# EAGLE library part EPF10K100A-BGA600 (library altera_pga84)
EPF10K100 FLEX 10K family
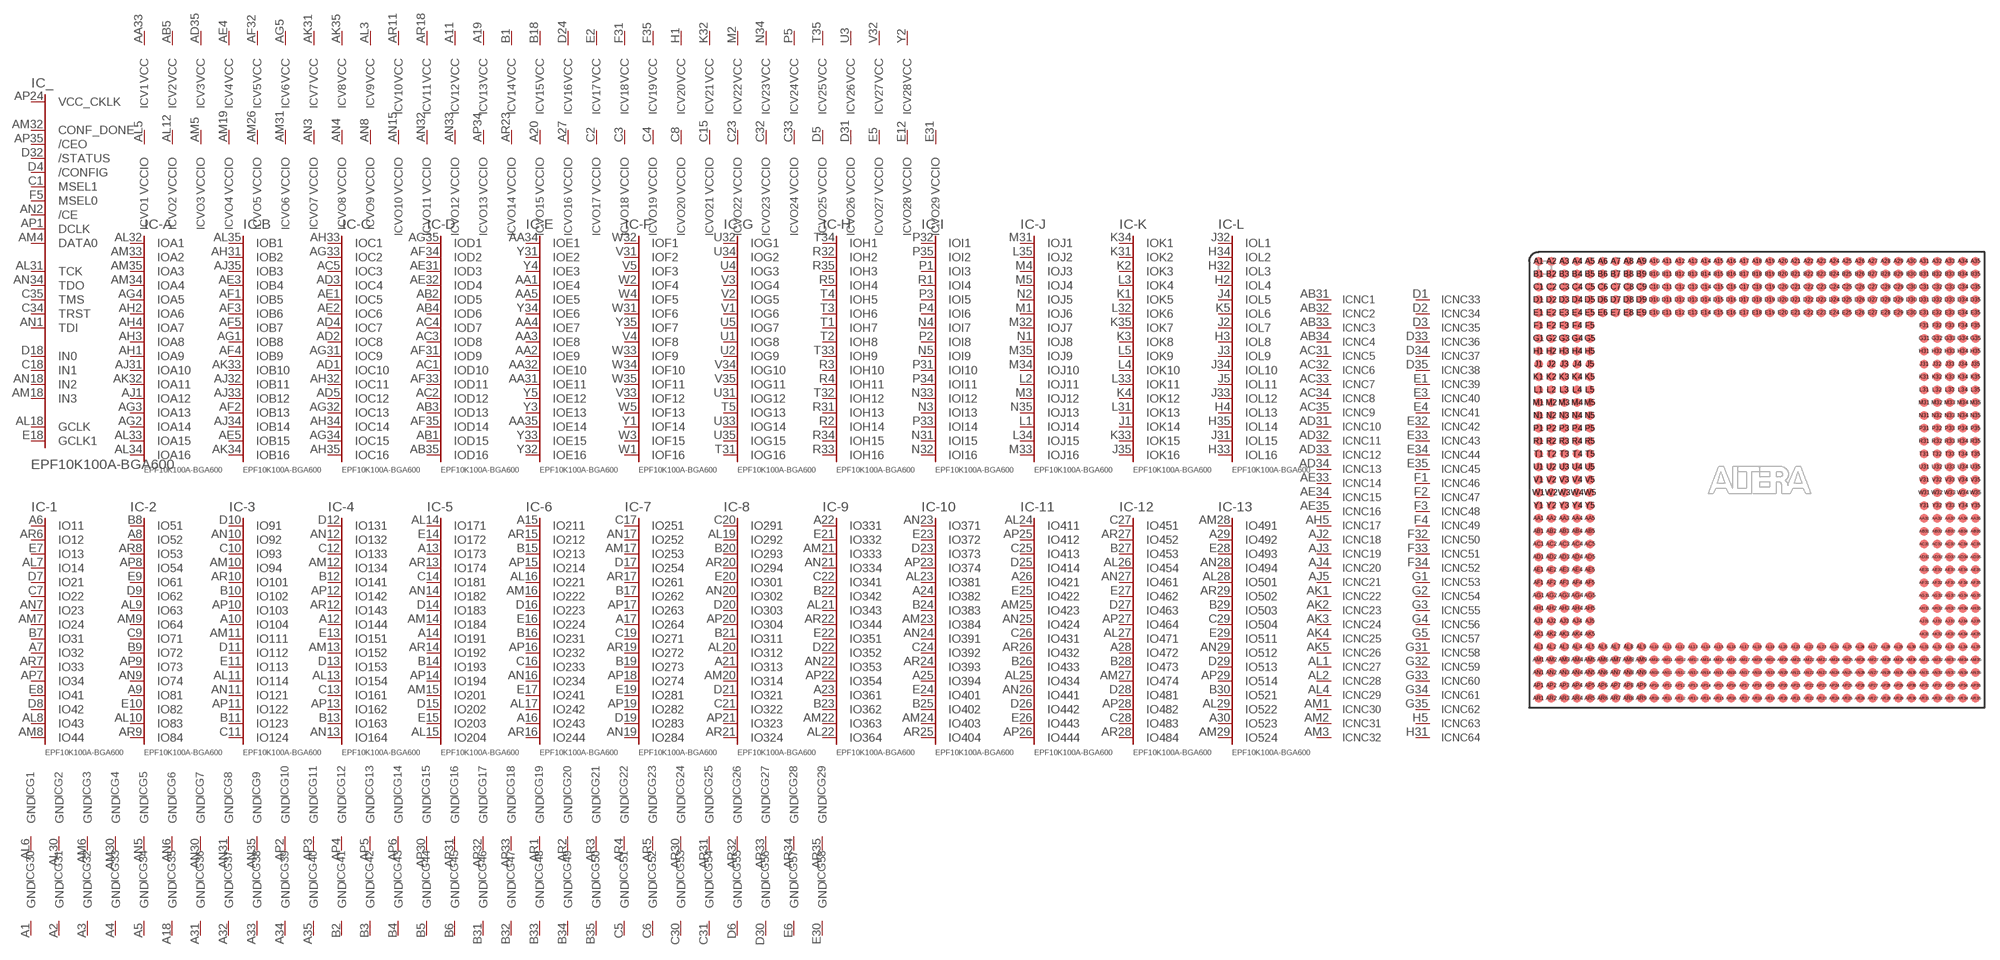
[diagram p39: symbol with the pads of BGA600; footprint BGA600]

Designator prefix IC; gates _=100B600C -A=A16 -B=B16 -C=C16 -D=D16 -E=E16 -F=F16 -G=G16 -H=H16 -I=I16 -J=J16 -K=K16 -L=L16 -1=IO44 -2=IO84 -3=IO124 -4=IO164 -5=IO204 -6=IO244 -7=IO284 -8=IO324 -9=IO364 -10=IO404 -11=IO444 -12=IO484 -13=IO524 G1=GND G2=GND G3=GND G4=GND G5=GND G6=GND G7=GND G8=GND G9=GND G10=GND G11=GND G12=GND G13=GND G14=GND G15=GND G16=GND G17=GND G18=GND G19=GND G20=GND G21=GND G22=GND G23=GND G24=GND G25=GND G26=GND G27=GND G28=GND G29=GND G30=GND G31=GND G32=GND G33=GND G34=GND G35=GND G36=GND G37=GND G38=GND G39=GND G40=GND G41=GND G42=GND G43=GND G44=GND G45=GND G46=GND G47=GND G48=GND G49=GND G50=GND G51=GND G52=GND G53=GND G54=GND G55=GND G56=GND G57=GND G58=GND NC1=NC NC2=NC NC3=NC NC4=NC NC5=NC NC6=NC NC7=NC NC8=NC NC9=NC NC10=NC NC11=NC NC12=NC NC13=NC NC14=NC NC15=NC NC16=NC NC17=NC NC18=NC NC19=NC NC20=NC NC21=NC NC22=NC NC23=NC NC24=NC NC25=NC NC26=NC NC27=NC NC28=NC NC29=NC NC30=NC NC31=NC NC32=NC NC33=NC NC34=NC NC35=NC NC36=NC NC37=NC NC38=NC NC39=NC NC40=NC NC41=NC NC42=NC NC43=NC NC44=NC NC45=NC NC46=NC NC47=NC NC48=NC NC49=NC NC50=NC NC51=NC NC52=NC NC53=NC NC54=NC NC55=NC NC56=NC NC57=NC NC58=NC NC59=NC NC60=NC NC61=NC NC62=NC NC63=NC NC64=NC V1=VCCINT V2=VCCINT V3=VCCINT V4=VCCINT V5=VCCINT V6=VCCINT V7=VCCINT V8=VCCINT V9=VCCINT V10=VCCINT V11=VCCINT V12=VCCINT V13=VCCINT V14=VCCINT V15=VCCINT V16=VCCINT V17=VCCINT V18=VCCINT V19=VCCINT V20=VCCINT V21=VCCINT V22=VCCINT V23=VCCINT V24=VCCINT V25=VCCINT V26=VCCINT V27=VCCINT V28=VCCINT VO1=VCCIO VO2=VCCIO VO3=VCCIO VO4=VCCIO VO5=VCCIO VO6=VCCIO VO7=VCCIO VO8=VCCIO VO9=VCCIO VO10=VCCIO VO11=VCCIO VO12=VCCIO VO13=VCCIO VO14=VCCIO VO15=VCCIO VO16=VCCIO VO17=VCCIO VO18=VCCIO VO19=VCCIO VO20=VCCIO VO21=VCCIO VO22=VCCIO VO23=VCCIO VO24=VCCIO VO25=VCCIO VO26=VCCIO VO27=VCCIO VO28=VCCIO VO29=VCCIO

## EPF10K100A-BGA600 (MPN: EPF10K100ABC600-1; OC_FARNELL: unknown; OC_NEWARK: 51R8783)  [BGA600]
A1  G30:GND  pwr
A2  G31:GND  pwr
A3  G32:GND  pwr
A4  G33:GND  pwr
A5  G34:GND  pwr
A6  -1:IO11
A7  -1:IO32
A8  -2:IO52
A9  -2:IO81
A10  -3:IO104
A11  V12:VCC  pwr
A12  -4:IO144
A13  -5:IO173
A14  -5:IO191
A15  -6:IO211
A16  -6:IO243
A17  -7:IO264
A18  G35:GND  pwr
A19  V13:VCC  pwr
A20  VO15:VCCIO  pwr
A21  -8:IO313
A22  -9:IO331
A23  -9:IO361
A24  -10:IO382
A25  -10:IO394
A26  -11:IO421
A27  VO16:VCCIO  pwr
A28  -12:IO472
A29  -13:IO492
A30  -13:IO523
A31  G36:GND  pwr
A32  G37:GND  pwr
A33  G38:GND  pwr
A34  G39:GND  pwr
A35  G40:GND  pwr
AA1  -E:IOE4
AA2  -E:IOE9
AA3  -E:IOE8
AA4  -E:IOE7
AA5  -E:IOE5
AA31  -E:IOE11
AA32  -E:IOE10
AA33  V1:VCC  pwr
AA34  -E:IOE1
AA35  -E:IOE14
AB1  -D:IOD15
AB2  -D:IOD5
AB3  -D:IOD13
AB4  -D:IOD6
AB5  V2:VCC  pwr
AB31  NC1:NC  nc
AB32  NC2:NC  nc
AB33  NC3:NC  nc
AB34  NC4:NC  nc
AB35  -D:IOD16
AC1  -D:IOD10
AC2  -D:IOD12
AC3  -D:IOD8
AC4  -D:IOD7
AC5  -C:IOC3
AC31  NC5:NC  nc
AC32  NC6:NC  nc
AC33  NC7:NC  nc
AC34  NC8:NC  nc
AC35  NC9:NC  nc
AD1  -C:IOC10
AD2  -C:IOC8
AD3  -C:IOC4
AD4  -C:IOC7
AD5  -C:IOC12
AD31  NC10:NC  nc
AD32  NC11:NC  nc
AD33  NC12:NC  nc
AD34  NC13:NC  nc
AD35  V3:VCC  pwr
AE1  -C:IOC5
AE2  -C:IOC6
AE3  -B:IOB4
AE4  V4:VCC  pwr
AE5  -B:IOB15
AE31  -D:IOD3
AE32  -D:IOD4
AE33  NC14:NC  nc
AE34  NC15:NC  nc
AE35  NC16:NC  nc
AF1  -B:IOB5
AF2  -B:IOB13
AF3  -B:IOB6
AF4  -B:IOB9
AF5  -B:IOB7
AF31  -D:IOD9
AF32  V5:VCC  pwr
AF33  -D:IOD11
AF34  -D:IOD2
AF35  -D:IOD14
AG1  -B:IOB8
AG2  -A:IOA14
AG3  -A:IOA13
AG4  -A:IOA5
AG5  V6:VCC  pwr
AG31  -C:IOC9
AG32  -C:IOC13
AG33  -C:IOC2
AG34  -C:IOC15
AG35  -D:IOD1
AH1  -A:IOA9
AH2  -A:IOA6
AH3  -A:IOA8
AH4  -A:IOA7
AH5  NC17:NC  nc
AH31  -B:IOB2
AH32  -C:IOC11
AH33  -C:IOC1
AH34  -C:IOC14
AH35  -C:IOC16
AJ1  -A:IOA12
AJ2  NC18:NC  nc
AJ3  NC19:NC  nc
AJ4  NC20:NC  nc
AJ5  NC21:NC  nc
AJ31  -A:IOA10
AJ32  -B:IOB11
AJ33  -B:IOB12
AJ34  -B:IOB14
AJ35  -B:IOB3
AK1  NC22:NC  nc
AK2  NC23:NC  nc
AK3  NC24:NC  nc
AK4  NC25:NC  nc
AK5  NC26:NC  nc
AK31  V7:VCC  pwr
AK32  -A:IOA11
AK33  -B:IOB10
AK34  -B:IOB16
AK35  V8:VCC  pwr
AL1  NC27:NC  nc
AL2  NC28:NC  nc
AL3  V9:VCC  pwr
AL4  NC29:NC  nc
AL5  VO1:VCCIO  pwr
AL6  G1:GND  pwr
AL7  -1:IO14
AL8  -1:IO43
AL9  -2:IO63
AL10  -2:IO83
AL11  -3:IO114
AL12  VO2:VCCIO  pwr
AL13  -4:IO154
AL14  -5:IO171
AL15  -5:IO204
AL16  -6:IO221
AL17  -6:IO242
AL18  _:GCLK  in
AL19  -8:IO292
AL20  -8:IO312
AL21  -9:IO343
AL22  -9:IO364
AL23  -10:IO381
AL24  -11:IO411
AL25  -11:IO434
AL26  -12:IO454
AL27  -12:IO471
AL28  -13:IO501
AL29  -13:IO522
AL30  G2:GND  pwr
AL31  _:TCK
AL32  -A:IOA1
AL33  -A:IOA15
AL34  -A:IOA16
AL35  -B:IOB1
AM1  NC30:NC  nc
AM2  NC31:NC  nc
AM3  NC32:NC  nc
AM4  _:DATA0  in
AM5  VO3:VCCIO  pwr
AM6  G3:GND  pwr
AM7  -1:IO24
AM8  -1:IO44
AM9  -2:IO64
AM10  -3:IO94
AM11  -3:IO111
AM12  -4:IO134
AM13  -4:IO152
AM14  -5:IO184
AM15  -5:IO201
AM16  -6:IO222
AM17  -7:IO253
AM18  _:IN3  in
AM19  VO4:VCCIO  pwr
AM20  -8:IO314
AM21  -9:IO333
AM22  -9:IO363
AM23  -10:IO384
AM24  -10:IO403
AM25  -11:IO423
AM26  VO5:VCCIO  pwr
AM27  -12:IO474
AM28  -13:IO491
AM29  -13:IO524
AM30  G4:GND  pwr
AM31  VO6:VCCIO  pwr
AM32  _:CONF_DONE  in
AM33  -A:IOA2
AM34  -A:IOA4
AM35  -A:IOA3
AN1  _:TDI
AN2  _:/CE  in
AN3  VO7:VCCIO  pwr
AN4  VO8:VCCIO  pwr
AN5  G5:GND  pwr
AN6  G6:GND  pwr
AN7  -1:IO23
AN8  VO9:VCCIO  pwr
AN9  -2:IO74
AN10  -3:IO92
AN11  -3:IO121
AN12  -4:IO132
AN13  -4:IO164
AN14  -5:IO182
AN15  VO10:VCCIO  pwr
AN16  -6:IO234
AN17  -7:IO252
AN18  _:IN2  in
AN19  -7:IO284
AN20  -8:IO302
AN21  -9:IO334
AN22  -9:IO353
AN23  -10:IO371
AN24  -10:IO391
AN25  -11:IO424
AN26  -11:IO441
AN27  -12:IO461
AN28  -13:IO494
AN29  -13:IO512
AN30  G7:GND  pwr
AN31  G8:GND  pwr
AN32  VO11:VCCIO  pwr
AN33  VO12:VCCIO  pwr
AN34  _:TDO
AN35  G9:GND  pwr
AP1  _:DCLK  in
AP2  G10:GND  pwr
AP3  G11:GND  pwr
AP4  G12:GND  pwr
AP5  G13:GND  pwr
AP6  G14:GND  pwr
AP7  -1:IO34
AP8  -2:IO54
AP9  -2:IO73
AP10  -3:IO103
AP11  -3:IO122
AP12  -4:IO142
AP13  -4:IO162
AP14  -5:IO194
AP15  -6:IO214
AP16  -6:IO232
AP17  -7:IO263
AP18  -7:IO274
AP19  -7:IO282
AP20  -8:IO304
AP21  -8:IO323
AP22  -9:IO354
AP23  -10:IO374
AP24  _:VCC_CKLK  pas
AP25  -11:IO412
AP26  -11:IO444
AP27  -12:IO464
AP28  -12:IO482
AP29  -13:IO514
AP30  G15:GND  pwr
AP31  G16:GND  pwr
AP32  G17:GND  pwr
AP33  G18:GND  pwr
AP34  VO13:VCCIO  pwr
AP35  _:/CEO  in
AR1  G19:GND  pwr
AR2  G20:GND  pwr
AR3  G21:GND  pwr
AR4  G22:GND  pwr
AR5  G23:GND  pwr
AR6  -1:IO12
AR7  -1:IO33
AR8  -2:IO53
AR9  -2:IO84
AR10  -3:IO101
AR11  V10:VCC  pwr
AR12  -4:IO143
AR13  -5:IO174
AR14  -5:IO192
AR15  -6:IO212
AR16  -6:IO244
AR17  -7:IO261
AR18  V11:VCC  pwr
AR19  -7:IO272
AR20  -8:IO294
AR21  -8:IO324
AR22  -9:IO344
AR23  VO14:VCCIO  pwr
AR24  -10:IO393
AR25  -10:IO404
AR26  -11:IO432
AR27  -12:IO452
AR28  -12:IO484
AR29  -13:IO502
AR30  G24:GND  pwr
AR31  G25:GND  pwr
AR32  G26:GND  pwr
AR33  G27:GND  pwr
AR34  G28:GND  pwr
AR35  G29:GND  pwr
B1  V14:VCC  pwr
B2  G41:GND  pwr
B3  G42:GND  pwr
B4  G43:GND  pwr
B5  G44:GND  pwr
B6  G45:GND  pwr
B7  -1:IO31
B8  -2:IO51
B9  -2:IO72
B10  -3:IO102
B11  -3:IO123
B12  -4:IO141
B13  -4:IO163
B14  -5:IO193
B15  -6:IO213
B16  -6:IO231
B17  -7:IO262
B18  V15:VCC  pwr
B19  -7:IO273
B20  -8:IO293
B21  -8:IO311
B22  -9:IO342
B23  -9:IO362
B24  -10:IO383
B25  -10:IO402
B26  -11:IO433
B27  -12:IO453
B28  -12:IO473
B29  -13:IO503
B30  -13:IO521
B31  G46:GND  pwr
B32  G47:GND  pwr
B33  G48:GND  pwr
B34  G49:GND  pwr
B35  G50:GND  pwr
C1  _:MSEL1  in
C2  VO17:VCCIO  pwr
C3  VO18:VCCIO  pwr
C4  VO19:VCCIO  pwr
C5  G51:GND  pwr
C6  G52:GND  pwr
C7  -1:IO22
C8  VO20:VCCIO  pwr
C9  -2:IO71
C10  -3:IO93
C11  -3:IO124
C12  -4:IO133
C13  -4:IO161
C14  -5:IO181
C15  VO21:VCCIO  pwr
C16  -6:IO233
C17  -7:IO251
C18  _:IN1  in
C19  -7:IO271
C20  -8:IO291
C21  -8:IO322
C22  -9:IO341
C23  VO22:VCCIO  pwr
C24  -10:IO392
C25  -11:IO413
C26  -11:IO431
C27  -12:IO451
C28  -12:IO483
C29  -13:IO504
C30  G53:GND  pwr
C31  G54:GND  pwr
C32  VO23:VCCIO  pwr
C33  VO24:VCCIO  pwr
C34  _:TRST
C35  _:TMS
D1  NC33:NC  nc
D2  NC34:NC  nc
D3  NC35:NC  nc
D4  _:/CONFIG  in
D5  VO25:VCCIO  pwr
D6  G55:GND  pwr
D7  -1:IO21
D8  -1:IO42
D9  -2:IO62
D10  -3:IO91
D11  -3:IO112
D12  -4:IO131
D13  -4:IO153
D14  -5:IO183
D15  -5:IO202
D16  -6:IO223
D17  -7:IO254
D18  _:IN0  in
D19  -7:IO283
D20  -8:IO303
D21  -8:IO321
D22  -9:IO352
D23  -10:IO373
D24  V16:VCC  pwr
D25  -11:IO414
D26  -11:IO442
D27  -12:IO463
D28  -12:IO481
D29  -13:IO513
D30  G56:GND  pwr
D31  VO26:VCCIO  pwr
D32  _:/STATUS  in
D33  NC36:NC  nc
D34  NC37:NC  nc
D35  NC38:NC  nc
E1  NC39:NC  nc
E2  V17:VCC  pwr
E3  NC40:NC  nc
E4  NC41:NC  nc
E5  VO27:VCCIO  pwr
E6  G57:GND  pwr
E7  -1:IO13
E8  -1:IO41
E9  -2:IO61
E10  -2:IO82
E11  -3:IO113
E12  VO28:VCCIO  pwr
E13  -4:IO151
E14  -5:IO172
E15  -5:IO203
E16  -6:IO224
E17  -6:IO241
E18  _:GCLK1  in
E19  -7:IO281
E20  -8:IO301
E21  -9:IO332
E22  -9:IO351
E23  -10:IO372
E24  -10:IO401
E25  -11:IO422
E26  -11:IO443
E27  -12:IO462
E28  -13:IO493
E29  -13:IO511
E30  G58:GND  pwr
E31  VO29:VCCIO  pwr
E32  NC42:NC  nc
E33  NC43:NC  nc
E34  NC44:NC  nc
E35  NC45:NC  nc
F1  NC46:NC  nc
F2  NC47:NC  nc
F3  NC48:NC  nc
F4  NC49:NC  nc
F5  _:MSEL0  in
F31  V18:VCC  pwr
F32  NC50:NC  nc
F33  NC51:NC  nc
F34  NC52:NC  nc
F35  V19:VCC  pwr
G1  NC53:NC  nc
G2  NC54:NC  nc
G3  NC55:NC  nc
G4  NC56:NC  nc
G5  NC57:NC  nc
G31  NC58:NC  nc
G32  NC59:NC  nc
G33  NC60:NC  nc
G34  NC61:NC  nc
G35  NC62:NC  nc
H1  V20:VCC  pwr
H2  -L:IOL4
H3  -L:IOL8
H4  -L:IOL13
H5  NC63:NC  nc
H31  NC64:NC  nc
H32  -L:IOL3
H33  -L:IOL16
H34  -L:IOL2
H35  -L:IOL14
J1  -K:IOK14
J2  -L:IOL7
J3  -L:IOL9
J4  -L:IOL5
J5  -L:IOL11
J31  -L:IOL15
J32  -L:IOL1
J33  -L:IOL12
J34  -L:IOL10
J35  -K:IOK16
K1  -K:IOK5
K2  -K:IOK3
K3  -K:IOK8
K4  -K:IOK12
K5  -L:IOL6
K31  -K:IOK2
K32  V21:VCC  pwr
K33  -K:IOK15
K34  -K:IOK1
K35  -K:IOK7
L1  -J:IOJ14
L2  -J:IOJ11
L3  -K:IOK4
L4  -K:IOK10
L5  -K:IOK9
L31  -K:IOK13
L32  -K:IOK6
L33  -K:IOK11
L34  -J:IOJ15
L35  -J:IOJ2
M1  -J:IOJ6
M2  V22:VCC  pwr
M3  -J:IOJ12
M4  -J:IOJ3
M5  -J:IOJ4
M31  -J:IOJ1
M32  -J:IOJ7
M33  -J:IOJ16
M34  -J:IOJ10
M35  -J:IOJ9
N1  -J:IOJ8
N2  -J:IOJ5
N3  -I:IOI13
N4  -I:IOI7
N5  -I:IOI9
N31  -I:IOI15
N32  -I:IOI16
N33  -I:IOI12
N34  V23:VCC  pwr
N35  -J:IOJ13
P1  -I:IOI3
P2  -I:IOI8
P3  -I:IOI5
P4  -I:IOI6
P5  V24:VCC  pwr
P31  -I:IOI10
P32  -I:IOI1
P33  -I:IOI14
P34  -I:IOI11
P35  -I:IOI2
R1  -I:IOI4
R2  -H:IOH14
R3  -H:IOH10
R4  -H:IOH11
R5  -H:IOH4
R31  -H:IOH13
R32  -H:IOH2
R33  -H:IOH16
R34  -H:IOH15
R35  -H:IOH3
T1  -H:IOH7
T2  -H:IOH8
T3  -H:IOH6
T4  -H:IOH5
T5  -G:IOG13
T31  -G:IOG16
T32  -H:IOH12
T33  -H:IOH9
T34  -H:IOH1
T35  V25:VCC  pwr
U1  -G:IOG8
U2  -G:IOG9
U3  V26:VCC  pwr
U4  -G:IOG3
U5  -G:IOG7
U31  -G:IOG12
U32  -G:IOG1
U33  -G:IOG14
U34  -G:IOG2
U35  -G:IOG15
V1  -G:IOG6
V2  -G:IOG5
V3  -G:IOG4
V4  -F:IOF8
V5  -F:IOF3
V31  -F:IOF2
V32  V27:VCC  pwr
V33  -F:IOF12
V34  -G:IOG10
V35  -G:IOG11
W1  -F:IOF16
W2  -F:IOF4
W3  -F:IOF15
W4  -F:IOF5
W5  -F:IOF13
W31  -F:IOF6
W32  -F:IOF1
W33  -F:IOF9
W34  -F:IOF10
W35  -F:IOF11
Y1  -F:IOF14
Y2  V28:VCC  pwr
Y3  -E:IOE13
Y4  -E:IOE3
Y5  -E:IOE12
Y31  -E:IOE2
Y32  -E:IOE16
Y33  -E:IOE15
Y34  -E:IOE6
Y35  -F:IOF7

## Footprint BGA600 (pad centres in mm)
Ball Grid Array
smd 0.9 x 0.9: A1 -21.59,21.59; A2 -20.32,21.59; A3 -19.05,21.59; A4 -17.78,21.59; A5 -16.51,21.59; A6 -15.24,21.59; A7 -13.97,21.59; A8 -12.7,21.59; A9 -11.43,21.59; A10 -10.16,21.59; A11 -8.89,21.59; A12 -7.62,21.59; A13 -6.35,21.59; A14 -5.08,21.59; A15 -3.81,21.59; A16 -2.54,21.59; A17 -1.27,21.59; A18 0,21.59; A19 1.27,21.59; A20 2.54,21.59; A21 3.81,21.59; A22 5.08,21.59; A23 6.35,21.59; A24 7.62,21.59; A25 8.89,21.59; A26 10.16,21.59; A27 11.43,21.59; A28 12.7,21.59; A29 13.97,21.59; A30 15.24,21.59; A31 16.51,21.59; A32 17.78,21.59; A33 19.05,21.59; A34 20.32,21.59; A35 21.59,21.59; AA1 -21.59,-3.81; AA2 -20.32,-3.81; AA3 -19.05,-3.81; AA4 -17.78,-3.81; AA5 -16.51,-3.81; AA31 16.51,-3.81; AA32 17.78,-3.81; AA33 19.05,-3.81; AA34 20.32,-3.81; AA35 21.59,-3.81; AB1 -21.59,-5.08; AB2 -20.32,-5.08; AB3 -19.05,-5.08; AB4 -17.78,-5.08; AB5 -16.51,-5.08; AB31 16.51,-5.08; AB32 17.78,-5.08; AB33 19.05,-5.08; AB34 20.32,-5.08; AB35 21.59,-5.08; AC1 -21.59,-6.35; AC2 -20.32,-6.35; AC3 -19.05,-6.35; AC4 -17.78,-6.35; AC5 -16.51,-6.35; AC31 16.51,-6.35; AC32 17.78,-6.35; AC33 19.05,-6.35; AC34 20.32,-6.35; AC35 21.59,-6.35; AD1 -21.59,-7.62; AD2 -20.32,-7.62; AD3 -19.05,-7.62; AD4 -17.78,-7.62; AD5 -16.51,-7.62; AD31 16.51,-7.62; AD32 17.78,-7.62; AD33 19.05,-7.62; AD34 20.32,-7.62; AD35 21.59,-7.62; AE1 -21.59,-8.89; AE2 -20.32,-8.89; AE3 -19.05,-8.89; AE4 -17.78,-8.89; AE5 -16.51,-8.89; AE31 16.51,-8.89; AE32 17.78,-8.89; AE33 19.05,-8.89; AE34 20.32,-8.89; AE35 21.59,-8.89; AF1 -21.59,-10.16; AF2 -20.32,-10.16; AF3 -19.05,-10.16; AF4 -17.78,-10.16; AF5 -16.51,-10.16; AF31 16.51,-10.16; AF32 17.78,-10.16; AF33 19.05,-10.16; AF34 20.32,-10.16; AF35 21.59,-10.16; AG1 -21.59,-11.43; AG2 -20.32,-11.43; AG3 -19.05,-11.43; AG4 -17.78,-11.43; AG5 -16.51,-11.43; AG31 16.51,-11.43; AG32 17.78,-11.43; AG33 19.05,-11.43; AG34 20.32,-11.43; AG35 21.59,-11.43; AH1 -21.59,-12.7; AH2 -20.32,-12.7; AH3 -19.05,-12.7; AH4 -17.78,-12.7; AH5 -16.51,-12.7; AH31 16.51,-12.7; AH32 17.78,-12.7; AH33 19.05,-12.7; AH34 20.32,-12.7; AH35 21.59,-12.7; AJ1 -21.59,-13.97; AJ2 -20.32,-13.97; AJ3 -19.05,-13.97; AJ4 -17.78,-13.97; AJ5 -16.51,-13.97; AJ31 16.51,-13.97; AJ32 17.78,-13.97; AJ33 19.05,-13.97; AJ34 20.32,-13.97; AJ35 21.59,-13.97; AK1 -21.59,-15.24; AK2 -20.32,-15.24; AK3 -19.05,-15.24; AK4 -17.78,-15.24; AK5 -16.51,-15.24; AK31 16.51,-15.24; AK32 17.78,-15.24; AK33 19.05,-15.24; AK34 20.32,-15.24; AK35 21.59,-15.24; AL1 -21.59,-16.51; AL2 -20.32,-16.51; AL3 -19.05,-16.51; AL4 -17.78,-16.51; AL5 -16.51,-16.51; AL6 -15.24,-16.51; AL7 -13.97,-16.51; AL8 -12.7,-16.51; AL9 -11.43,-16.51; AL10 -10.16,-16.51; AL11 -8.89,-16.51; AL12 -7.62,-16.51; AL13 -6.35,-16.51; AL14 -5.08,-16.51; AL15 -3.81,-16.51; AL16 -2.54,-16.51; AL17 -1.27,-16.51; AL18 0,-16.51; AL19 1.27,-16.51; AL20 2.54,-16.51; AL21 3.81,-16.51; AL22 5.08,-16.51; AL23 6.35,-16.51; AL24 7.62,-16.51; AL25 8.89,-16.51; AL26 10.16,-16.51; AL27 11.43,-16.51; AL28 12.7,-16.51; AL29 13.97,-16.51; AL30 15.24,-16.51; AL31 16.51,-16.51; AL32 17.78,-16.51; AL33 19.05,-16.51; AL34 20.32,-16.51; AL35 21.59,-16.51; AM1 -21.59,-17.78; AM2 -20.32,-17.78; AM3 -19.05,-17.78; AM4 -17.78,-17.78; AM5 -16.51,-17.78; AM6 -15.24,-17.78; AM7 -13.97,-17.78; AM8 -12.7,-17.78; AM9 -11.43,-17.78; AM10 -10.16,-17.78; AM11 -8.89,-17.78; AM12 -7.62,-17.78; AM13 -6.35,-17.78; AM14 -5.08,-17.78; AM15 -3.81,-17.78; AM16 -2.54,-17.78; AM17 -1.27,-17.78; AM18 0,-17.78; AM19 1.27,-17.78; AM20 2.54,-17.78; AM21 3.81,-17.78; AM22 5.08,-17.78; AM23 6.35,-17.78; AM24 7.62,-17.78; AM25 8.89,-17.78; AM26 10.16,-17.78; AM27 11.43,-17.78; AM28 12.7,-17.78; AM29 13.97,-17.78; AM30 15.24,-17.78; AM31 16.51,-17.78; AM32 17.78,-17.78; AM33 19.05,-17.78; AM34 20.32,-17.78; AM35 21.59,-17.78; AN1 -21.59,-19.05; AN2 -20.32,-19.05; AN3 -19.05,-19.05; AN4 -17.78,-19.05; AN5 -16.51,-19.05; AN6 -15.24,-19.05; AN7 -13.97,-19.05; AN8 -12.7,-19.05; AN9 -11.43,-19.05; AN10 -10.16,-19.05; AN11 -8.89,-19.05; AN12 -7.62,-19.05; AN13 -6.35,-19.05; AN14 -5.08,-19.05; AN15 -3.81,-19.05; AN16 -2.54,-19.05; AN17 -1.27,-19.05; AN18 0,-19.05; AN19 1.27,-19.05; AN20 2.54,-19.05; AN21 3.81,-19.05; AN22 5.08,-19.05; AN23 6.35,-19.05; AN24 7.62,-19.05; AN25 8.89,-19.05; AN26 10.16,-19.05; AN27 11.43,-19.05; AN28 12.7,-19.05; AN29 13.97,-19.05; AN30 15.24,-19.05; AN31 16.51,-19.05; AN32 17.78,-19.05; AN33 19.05,-19.05; AN34 20.32,-19.05; AN35 21.59,-19.05; AP1 -21.59,-20.32; AP2 -20.32,-20.32; AP3 -19.05,-20.32; AP4 -17.78,-20.32; AP5 -16.51,-20.32; AP6 -15.24,-20.32; AP7 -13.97,-20.32; AP8 -12.7,-20.32; AP9 -11.43,-20.32; AP10 -10.16,-20.32; AP11 -8.89,-20.32; AP12 -7.62,-20.32; AP13 -6.35,-20.32; AP14 -5.08,-20.32; AP15 -3.81,-20.32; AP16 -2.54,-20.32; AP17 -1.27,-20.32; AP18 0,-20.32; AP19 1.27,-20.32; AP20 2.54,-20.32; AP21 3.81,-20.32; AP22 5.08,-20.32; AP23 6.35,-20.32; AP24 7.62,-20.32; AP25 8.89,-20.32; AP26 10.16,-20.32; AP27 11.43,-20.32; AP28 12.7,-20.32; AP29 13.97,-20.32; AP30 15.24,-20.32; AP31 16.51,-20.32; AP32 17.78,-20.32; AP33 19.05,-20.32; AP34 20.32,-20.32; AP35 21.59,-20.32; AR1 -21.59,-21.59; AR2 -20.32,-21.59; AR3 -19.05,-21.59; AR4 -17.78,-21.59; AR5 -16.51,-21.59; AR6 -15.24,-21.59; AR7 -13.97,-21.59; AR8 -12.7,-21.59; AR9 -11.43,-21.59; AR10 -10.16,-21.59; AR11 -8.89,-21.59; AR12 -7.62,-21.59; AR13 -6.35,-21.59; AR14 -5.08,-21.59; AR15 -3.81,-21.59; AR16 -2.54,-21.59; AR17 -1.27,-21.59; AR18 0,-21.59; AR19 1.27,-21.59; AR20 2.54,-21.59; AR21 3.81,-21.59; AR22 5.08,-21.59; AR23 6.35,-21.59; AR24 7.62,-21.59; AR25 8.89,-21.59; AR26 10.16,-21.59; AR27 11.43,-21.59; AR28 12.7,-21.59; AR29 13.97,-21.59; AR30 15.24,-21.59; AR31 16.51,-21.59; AR32 17.78,-21.59; AR33 19.05,-21.59; AR34 20.32,-21.59; AR35 21.59,-21.59; B1 -21.59,20.32; B2 -20.32,20.32; B3 -19.05,20.32; B4 -17.78,20.32; B5 -16.51,20.32; B6 -15.24,20.32; B7 -13.97,20.32; B8 -12.7,20.32; B9 -11.43,20.32; B10 -10.16,20.32; B11 -8.89,20.32; B12 -7.62,20.32; B13 -6.35,20.32; B14 -5.08,20.32; B15 -3.81,20.32; B16 -2.54,20.32; B17 -1.27,20.32; B18 0,20.32; B19 1.27,20.32; B20 2.54,20.32; B21 3.81,20.32; B22 5.08,20.32; B23 6.35,20.32; B24 7.62,20.32; B25 8.89,20.32; B26 10.16,20.32; B27 11.43,20.32; B28 12.7,20.32; B29 13.97,20.32; B30 15.24,20.32; B31 16.51,20.32; B32 17.78,20.32; B33 19.05,20.32; B34 20.32,20.32; B35 21.59,20.32; C1 -21.59,19.05; C2 -20.32,19.05; C3 -19.05,19.05; C4 -17.78,19.05; C5 -16.51,19.05; C6 -15.24,19.05; C7 -13.97,19.05; C8 -12.7,19.05; C9 -11.43,19.05; C10 -10.16,19.05; C11 -8.89,19.05; C12 -7.62,19.05; C13 -6.35,19.05; C14 -5.08,19.05; C15 -3.81,19.05; C16 -2.54,19.05; C17 -1.27,19.05; C18 0,19.05; C19 1.27,19.05; C20 2.54,19.05; C21 3.81,19.05; C22 5.08,19.05; C23 6.35,19.05; C24 7.62,19.05; C25 8.89,19.05; C26 10.16,19.05; C27 11.43,19.05; C28 12.7,19.05; C29 13.97,19.05; C30 15.24,19.05; C31 16.51,19.05; C32 17.78,19.05; C33 19.05,19.05; C34 20.32,19.05; C35 21.59,19.05; D1 -21.59,17.78; D2 -20.32,17.78; D3 -19.05,17.78; D4 -17.78,17.78; D5 -16.51,17.78; D6 -15.24,17.78; D7 -13.97,17.78; D8 -12.7,17.78; D9 -11.43,17.78; D10 -10.16,17.78; D11 -8.89,17.78; D12 -7.62,17.78; D13 -6.35,17.78; D14 -5.08,17.78; D15 -3.81,17.78; D16 -2.54,17.78; D17 -1.27,17.78; D18 0,17.78; D19 1.27,17.78; D20 2.54,17.78; D21 3.81,17.78; D22 5.08,17.78; D23 6.35,17.78; D24 7.62,17.78; D25 8.89,17.78; D26 10.16,17.78; D27 11.43,17.78; D28 12.7,17.78; D29 13.97,17.78; D30 15.24,17.78; D31 16.51,17.78; D32 17.78,17.78; D33 19.05,17.78; D34 20.32,17.78; D35 21.59,17.78; E1 -21.59,16.51; E2 -20.32,16.51; E3 -19.05,16.51; E4 -17.78,16.51; E5 -16.51,16.51; E6 -15.24,16.51; E7 -13.97,16.51; E8 -12.7,16.51; E9 -11.43,16.51; E10 -10.16,16.51; E11 -8.89,16.51; E12 -7.62,16.51; E13 -6.35,16.51; E14 -5.08,16.51; E15 -3.81,16.51; E16 -2.54,16.51; E17 -1.27,16.51; E18 0,16.51; E19 1.27,16.51; E20 2.54,16.51; E21 3.81,16.51; E22 5.08,16.51; E23 6.35,16.51; E24 7.62,16.51; E25 8.89,16.51; E26 10.16,16.51; E27 11.43,16.51; E28 12.7,16.51; E29 13.97,16.51; E30 15.24,16.51; E31 16.51,16.51; E32 17.78,16.51; E33 19.05,16.51; E34 20.32,16.51; E35 21.59,16.51; F1 -21.59,15.24; F2 -20.32,15.24; F3 -19.05,15.24; F4 -17.78,15.24; F5 -16.51,15.24; F31 16.51,15.24; F32 17.78,15.24; F33 19.05,15.24; F34 20.32,15.24; F35 21.59,15.24; G1 -21.59,13.97; G2 -20.32,13.97; G3 -19.05,13.97; G4 -17.78,13.97; G5 -16.51,13.97; G31 16.51,13.97; G32 17.78,13.97; G33 19.05,13.97; G34 20.32,13.97; G35 21.59,13.97; H1 -21.59,12.7; H2 -20.32,12.7; H3 -19.05,12.7; H4 -17.78,12.7; H5 -16.51,12.7; H31 16.51,12.7; H32 17.78,12.7; H33 19.05,12.7; H34 20.32,12.7; H35 21.59,12.7; J1 -21.59,11.43; J2 -20.32,11.43; J3 -19.05,11.43; J4 -17.78,11.43; J5 -16.51,11.43; J31 16.51,11.43; J32 17.78,11.43; J33 19.05,11.43; J34 20.32,11.43; J35 21.59,11.43; K1 -21.59,10.16; K2 -20.32,10.16; K3 -19.05,10.16; K4 -17.78,10.16; K5 -16.51,10.16; K31 16.51,10.16; K32 17.78,10.16; K33 19.05,10.16; K34 20.32,10.16; K35 21.59,10.16; L1 -21.59,8.89; L2 -20.32,8.89; L3 -19.05,8.89; L4 -17.78,8.89; L5 -16.51,8.89; L31 16.51,8.89; L32 17.78,8.89; L33 19.05,8.89; L34 20.32,8.89; L35 21.59,8.89; M1 -21.59,7.62; M2 -20.32,7.62; M3 -19.05,7.62; M4 -17.78,7.62; M5 -16.51,7.62; M31 16.51,7.62; M32 17.78,7.62; M33 19.05,7.62; M34 20.32,7.62; M35 21.59,7.62; N1 -21.59,6.35; N2 -20.32,6.35; N3 -19.05,6.35; N4 -17.78,6.35; N5 -16.51,6.35; N31 16.51,6.35; N32 17.78,6.35; N33 19.05,6.35; N34 20.32,6.35; N35 21.59,6.35; P1 -21.59,5.08; P2 -20.32,5.08; P3 -19.05,5.08; P4 -17.78,5.08; P5 -16.51,5.08; P31 16.51,5.08; P32 17.78,5.08; P33 19.05,5.08; P34 20.32,5.08; P35 21.59,5.08; R1 -21.59,3.81; R2 -20.32,3.81; R3 -19.05,3.81; R4 -17.78,3.81; R5 -16.51,3.81; R31 16.51,3.81; R32 17.78,3.81; R33 19.05,3.81; R34 20.32,3.81; R35 21.59,3.81; T1 -21.59,2.54; T2 -20.32,2.54; T3 -19.05,2.54; T4 -17.78,2.54; T5 -16.51,2.54; T31 16.51,2.54; T32 17.78,2.54; T33 19.05,2.54; T34 20.32,2.54; T35 21.59,2.54; U1 -21.59,1.27; U2 -20.32,1.27; U3 -19.05,1.27; U4 -17.78,1.27; U5 -16.51,1.27; U31 16.51,1.27; U32 17.78,1.27; U33 19.05,1.27; U34 20.32,1.27; U35 21.59,1.27; V1 -21.59,0; V2 -20.32,0; V3 -19.05,0; V4 -17.78,0; V5 -16.51,0; V31 16.51,0; V32 17.78,0; V33 19.05,0; V34 20.32,0; V35 21.59,0; W1 -21.59,-1.27; W2 -20.32,-1.27; W3 -19.05,-1.27; W4 -17.78,-1.27; W5 -16.51,-1.27; W31 16.51,-1.27; W32 17.78,-1.27; W33 19.05,-1.27; W34 20.32,-1.27; W35 21.59,-1.27; Y1 -21.59,-2.54; Y2 -20.32,-2.54; Y3 -19.05,-2.54; Y4 -17.78,-2.54; Y5 -16.51,-2.54; Y31 16.51,-2.54; Y32 17.78,-2.54; Y33 19.05,-2.54; Y34 20.32,-2.54; Y35 21.59,-2.54